# EAGLE library part 651005136421 (library WR-USB)
WR-USB Mini/Micro Connectors Characteristics Mini and Micro form factors, ideal for space-constrained designs Pin configuration: 5 pins for USB 2.0 / 10 pins for USB 3.x Designed for high cycle durability UL, TID listing for USB standards Applications Mobile and handheld devices Wearables and portable accessories Embedded systems and IoT modules Details see: www.we-online.com/en/components/products/INPUT_OUTPUT_WR_USB_STANDARD Updated by Ella 2024-05-21 2024 (C) Würth Elektronik
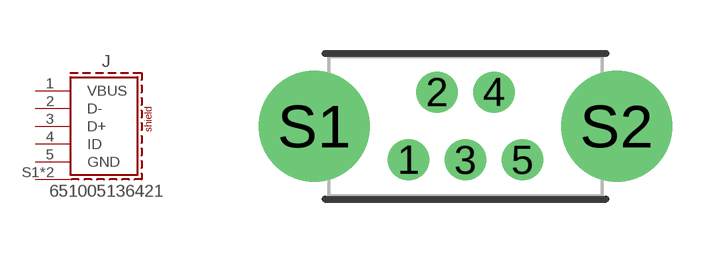
[diagram p10: symbol with the pads of 651005136421; footprint 651005136421]

Designator prefix J

## 651005136421 (APPLICATION: Mini USB 2.0; DATASHEET: https://www.we-online.com/redexpert/spec/651005136421?ae; GERDER: Receptacle; INTERFACE-TYPE: Type B; IR: 1 A; MOUNT: THT; PACKAGING: Tray; PART-NUMBER: 651005136421; PINS: 5pcs; TYPE: Vertical; VALUE: 651005136421; WORKING-VOLTAGE: 30 V (AC))  [651005136421]
1  VBUS  pas
2  D-  pas
3  D+  pas
4  ID  pas
5  GND  pas
S1  SHIELD  pas
S2  SHIELD  pas

## Footprint 651005136421 (pad centres in mm)
WR-USB Mini/Micro Connectors Mini USB 2.0, Type B, Vertical THT, 5Pins
drill 0.65: 1 -1.6,-0.94; 2 -0.8,0.96; 3 0,-0.94; 4 0.8,0.96; 5 1.6,-0.94
drill 2.1: S1 -4.25,0; S2 4.25,0